# EAGLE library part CON_8X2 (library pcaroli)
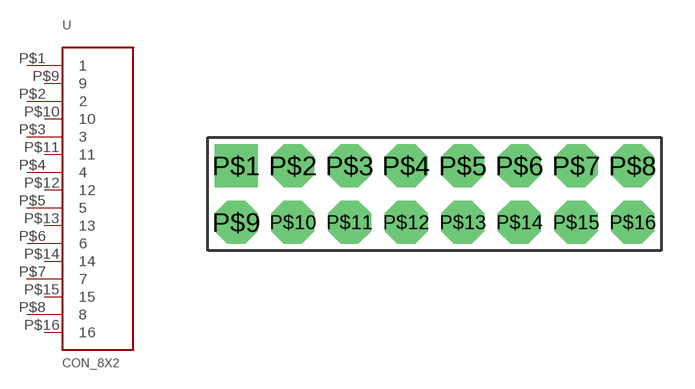
[diagram p9: symbol with the pads of CON_8X2_2.54; footprint CON_8X2_2.54]

Designator prefix -

## CON_8X2  [CON_8X2_2.54]
P$1  1
P$2  2
P$3  3
P$4  4
P$5  5
P$6  6
P$7  7
P$8  8
P$9  9
P$10  10
P$11  11
P$12  12
P$13  13
P$14  14
P$15  15
P$16  16

## Footprint CON_8X2_2.54 (pad centres in mm)
drill 1 pad 1.93 square: P$1 -8.89,1.27
drill 1 pad 1.93 octagon: P$2 -6.35,1.27; P$3 -3.81,1.27; P$4 -1.27,1.27; P$5 1.27,1.27; P$6 3.81,1.27; P$7 6.35,1.27; P$8 8.89,1.27; P$9 -8.89,-1.27; P$10 -6.35,-1.27; P$11 -3.81,-1.27; P$12 -1.27,-1.27; P$13 1.27,-1.27; P$14 3.81,-1.27; P$15 6.35,-1.27; P$16 8.89,-1.27